# EAGLE library part MT7628AN (library Deegou_IC)
The MT7628 router-on-a-chip includes an 802.11n MAC and baseband, a 2.4 GHz radio and FEM, a 575/580MHz MIPS? 24K? CPU core, a 5-port 10/100 fast ethernet switch. The MT7628 includes everything needed to build an AP router from a single chip. The embedded high performance CPU can process advanced applications effortlessly, such as routing, security and VoIP. The MT7628 also includes a selection of interfaces to support a variety of applications, such as a USB port for accessing external storage.
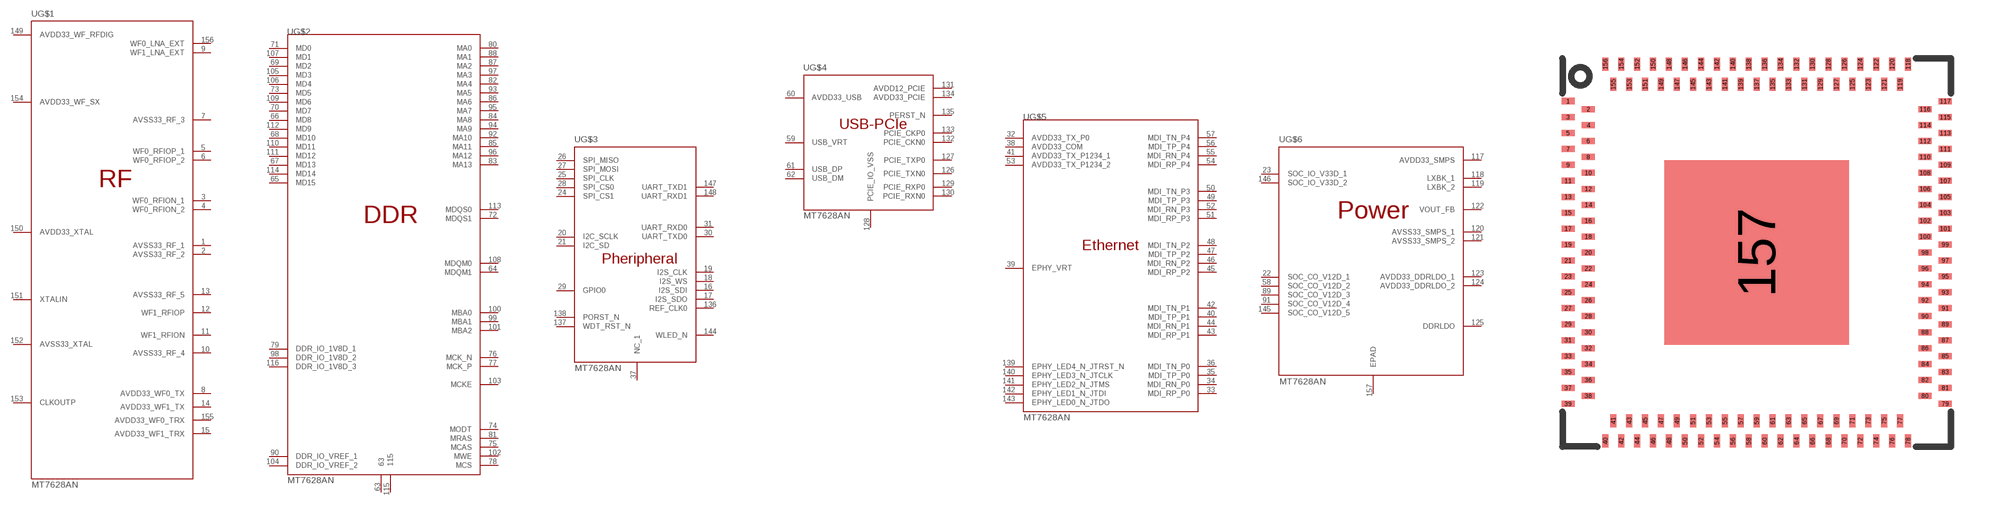
[diagram p142: symbol with the pads of DR-QFN-12X12-156P; footprint DR-QFN-12X12-156P]

Designator prefix U; gates G$1=MT7628AN-UA G$2=MT7628AN-UB G$3=MT7628AN-UC G$4=MT7628AN-UD G$5=MT7628AN-UE G$6=MT7628AN-UF

## MT7628AN-DR-QFN-12X12-156P  [DR-QFN-12X12-156P]
1  G$1:AVSS33_RF_1
2  G$1:AVSS33_RF_2
3  G$1:WF0_RFION_1
4  G$1:WF0_RFION_2
5  G$1:WF0_RFIOP_1
6  G$1:WF0_RFIOP_2
7  G$1:AVSS33_RF_3
8  G$1:AVDD33_WF0_TX
9  G$1:WF1_LNA_EXT
10  G$1:AVSS33_RF_4
11  G$1:WF1_RFION
12  G$1:WF1_RFIOP
13  G$1:AVSS33_RF_5
14  G$1:AVDD33_WF1_TX
15  G$1:AVDD33_WF1_TRX
16  G$3:I2S_SDI
17  G$3:I2S_SDO
18  G$3:I2S_WS
19  G$3:I2S_CLK
20  G$3:I2C_SCLK
21  G$3:I2C_SD
22  G$6:SOC_CO_V12D_1
23  G$6:SOC_IO_V33D_1
24  G$3:SPI_CS1
25  G$3:SPI_CLK
26  G$3:SPI_MISO
27  G$3:SPI_MOSI
28  G$3:SPI_CS0
29  G$3:GPIO0
30  G$3:UART_TXD0
31  G$3:UART_RXD0
32  G$5:AVDD33_TX_P0
33  G$5:MDI_RP_P0
34  G$5:MDI_RN_P0
35  G$5:MDI_TP_P0
36  G$5:MDI_TN_P0
37  G$3:NC_1
38  G$5:AVDD33_COM
39  G$5:EPHY_VRT
40  G$5:MDI_TP_P1
41  G$5:AVDD33_TX_P1234_1
42  G$5:MDI_TN_P1
43  G$5:MDI_RP_P1
44  G$5:MDI_RN_P1
45  G$5:MDI_RP_P2
46  G$5:MDI_RN_P2
47  G$5:MDI_TP_P2
48  G$5:MDI_TN_P2
49  G$5:MDI_TP_P3
50  G$5:MDI_TN_P3
51  G$5:MDI_RP_P3
52  G$5:MDI_RN_P3
53  G$5:AVDD33_TX_P1234_2
54  G$5:MDI_RP_P4
55  G$5:MDI_RN_P4
56  G$5:MDI_TP_P4
57  G$5:MDI_TN_P4
58  G$6:SOC_CO_V12D_2
59  G$4:USB_VRT
60  G$4:AVDD33_USB
61  G$4:USB_DP
62  G$4:USB_DM
63  G$2:63
64  G$2:MDQM1
65  G$2:MD15
66  G$2:MD8
67  G$2:MD13
68  G$2:MD10
69  G$2:MD2
70  G$2:MD7
71  G$2:MD0
72  G$2:MDQS1
73  G$2:MD5
74  G$2:MODT
75  G$2:MCAS
76  G$2:MCK_N
77  G$2:MCK_P
78  G$2:MCS
79  G$2:DDR_IO_1V8D_1
80  G$2:MA0
81  G$2:MRAS
82  G$2:MA4
83  G$2:MA13
84  G$2:MA8
85  G$2:MA11
86  G$2:MA6
87  G$2:MA2
88  G$2:MA1
89  G$6:SOC_CO_V12D_3
90  G$2:DDR_IO_VREF_1
91  G$6:SOC_CO_V12D_4
92  G$2:MA10
93  G$2:MA5
94  G$2:MA9
95  G$2:MA7
96  G$2:MA12
97  G$2:MA3
98  G$2:DDR_IO_1V8D_2
99  G$2:MBA1
100  G$2:MBA0
101  G$2:MBA2
102  G$2:MWE
103  G$2:MCKE
104  G$2:DDR_IO_VREF_2
105  G$2:MD3
106  G$2:MD4
107  G$2:MD1
108  G$2:MDQM0
109  G$2:MD6
110  G$2:MD11
111  G$2:MD12
112  G$2:MD9
113  G$2:MDQS0
114  G$2:MD14
115  G$2:115
116  G$2:DDR_IO_1V8D_3
117  G$6:AVDD33_SMPS
118  G$6:LXBK_1
119  G$6:LXBK_2
120  G$6:AVSS33_SMPS_1
121  G$6:AVSS33_SMPS_2
122  G$6:VOUT_FB
123  G$6:AVDD33_DDRLDO_1
124  G$6:AVDD33_DDRLDO_2
125  G$6:DDRLDO
126  G$4:PCIE_TXN0
127  G$4:PCIE_TXP0
128  G$4:PCIE_IO_VSS
129  G$4:PCIE_RXP0
130  G$4:PCIE_RXN0
131  G$4:AVDD12_PCIE
132  G$4:PCIE_CKN0
133  G$4:PCIE_CKP0
134  G$4:AVDD33_PCIE
135  G$4:PERST_N
136  G$3:REF_CLK0
137  G$3:WDT_RST_N
138  G$3:PORST_N
139  G$5:EPHY_LED4_N_JTRST_N
140  G$5:EPHY_LED3_N_JTCLK
141  G$5:EPHY_LED2_N_JTMS
142  G$5:EPHY_LED1_N_JTDI
143  G$5:EPHY_LED0_N_JTDO
144  G$3:WLED_N
145  G$6:SOC_CO_V12D_5
146  G$6:SOC_IO_V33D_2
147  G$3:UART_TXD1
148  G$3:UART_RXD1
149  G$1:AVDD33_WF_RFDIG
150  G$1:AVDD33_XTAL
151  G$1:XTALIN
152  G$1:AVSS33_XTAL
153  G$1:CLKOUTP
154  G$1:AVDD33_WF_SX
155  G$1:AVDD33_WF0_TRX
156  G$1:WF0_LNA_EXT
157  G$6:EPAD

## Footprint DR-QFN-12X12-156P (pad centres in mm)
Original name MT7628AN$2F$DRQFN156$2F$SMD$32
smd 0.406 x 0.203: 1 -5.918,4.75
smd 0.406 x 0.191: 2 -5.283,4.5; 3 -5.918,4.25; 4 -5.283,4; 5 -5.918,3.75; 6 -5.283,3.5; 7 -5.918,3.25; 8 -5.283,3; 9 -5.918,2.75; 10 -5.283,2.5; 11 -5.918,2.25; 12 -5.283,2; 13 -5.918,1.75; 14 -5.283,1.5; 15 -5.918,1.25; 16 -5.283,1; 17 -5.918,0.75; 18 -5.283,0.5; 19 -5.918,0.25; 20 -5.283,0; 21 -5.918,-0.25; 22 -5.283,-0.5; 23 -5.918,-0.75; 24 -5.283,-1; 25 -5.918,-1.25; 26 -5.283,-1.5; 27 -5.918,-1.75; 28 -5.283,-2; 29 -5.918,-2.25; 30 -5.283,-2.5; 31 -5.918,-2.75; 32 -5.283,-3; 33 -5.918,-3.25; 34 -5.283,-3.5; 35 -5.918,-3.75; 36 -5.283,-4; 37 -5.918,-4.25; 38 -5.283,-4.5; 39 -5.918,-4.75; 79 5.918,-4.75; 80 5.283,-4.5; 81 5.918,-4.25; 82 5.283,-4; 83 5.918,-3.75; 84 5.283,-3.5; 85 5.918,-3.25; 86 5.283,-3; 87 5.918,-2.75; 88 5.283,-2.5; 89 5.918,-2.25; 90 5.283,-2; 91 5.918,-1.75; 92 5.283,-1.5; 93 5.918,-1.25; 94 5.283,-1; 95 5.918,-0.75; 96 5.283,-0.5; 97 5.918,-0.25; 98 5.283,0; 99 5.918,0.25; 100 5.283,0.5; 101 5.918,0.75; 102 5.283,1; 103 5.918,1.25; 104 5.283,1.5; 105 5.918,1.75; 106 5.283,2; 107 5.918,2.25; 108 5.283,2.5; 109 5.918,2.75; 110 5.283,3; 111 5.918,3.25; 112 5.283,3.5; 113 5.918,3.75; 114 5.283,4; 115 5.918,4.25; 116 5.283,4.5; 117 5.918,4.75
smd 0.191 x 0.406: 40 -4.75,-5.918; 41 -4.5,-5.283; 42 -4.25,-5.918; 43 -4,-5.283; 44 -3.75,-5.918; 45 -3.5,-5.283; 46 -3.25,-5.918; 47 -3,-5.283; 48 -2.75,-5.918; 49 -2.5,-5.283; 50 -2.25,-5.918; 51 -2,-5.283; 52 -1.75,-5.918; 53 -1.5,-5.283; 54 -1.25,-5.918; 55 -1,-5.283; 56 -0.75,-5.918; 57 -0.5,-5.283; 58 -0.25,-5.918; 59 0,-5.283; 60 0.25,-5.918; 61 0.5,-5.283; 62 0.75,-5.918; 63 1,-5.283; 64 1.25,-5.918; 65 1.5,-5.283; 66 1.75,-5.918; 67 2,-5.283; 68 2.25,-5.918; 69 2.5,-5.283; 70 2.75,-5.918; 71 3,-5.283; 72 3.25,-5.918; 73 3.5,-5.283; 74 3.75,-5.918; 75 4,-5.283; 76 4.25,-5.918; 77 4.5,-5.283; 78 4.75,-5.918; 118 4.75,5.918; 119 4.5,5.283; 120 4.25,5.918; 121 4,5.283; 122 3.75,5.918; 123 3.5,5.283; 124 3.25,5.918; 125 3,5.283; 126 2.75,5.918; 127 2.5,5.283; 128 2.25,5.918; 129 2,5.283; 130 1.75,5.918; 131 1.5,5.283; 132 1.25,5.918; 133 1,5.283; 134 0.75,5.918; 135 0.5,5.283; 136 0.25,5.918; 137 0,5.283; 138 -0.25,5.918; 139 -0.5,5.283; 140 -0.75,5.918; 141 -1,5.283; 142 -1.25,5.918; 143 -1.5,5.283; 144 -1.75,5.918; 145 -2,5.283; 146 -2.25,5.918; 147 -2.5,5.283; 148 -2.75,5.918; 149 -3,5.283; 150 -3.25,5.918; 151 -3.5,5.283; 152 -3.75,5.918; 153 -4,5.283; 154 -4.25,5.918; 155 -4.5,5.283; 156 -4.75,5.918
smd 5.8 x 5.8: 157 0,0